# EAGLE library part 78LXX-6 (library ads4)
78LXX voltage regulator -- 8 pins
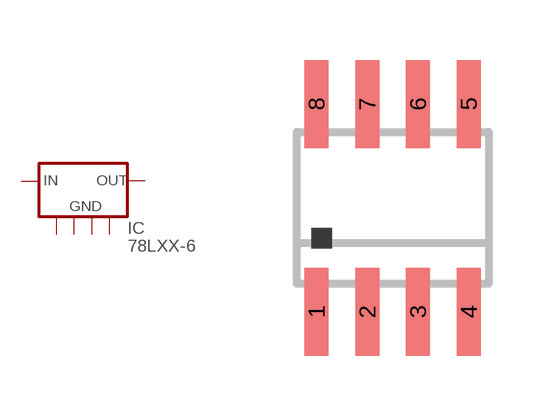
[diagram p58: symbol with the pads of SOIC8; footprint SOIC8]

Designator prefix IC

## 78LXX-6SOIC8  [SOIC8]
1  OUT  pas
2  GND  in
3  GND  in
6  GND  in
7  GND  in
8  IN  in

## Footprint SOIC8 (pad centres in mm)
Small Outline IC From ref-packages.lbr
smd 0.6 x 2.2: 1 -1.905,-2.6; 2 -0.635,-2.6; 3 0.635,-2.6; 4 1.905,-2.6; 5 1.905,2.6; 6 0.635,2.6; 7 -0.635,2.6; 8 -1.905,2.6